# EAGLE library part 750370228 (library ds_trafo)
WE-OLSTM Offline Flyback Transformers Characteristics Nominal input voltage: 85–265 VAC (120–375 VDC) Operating temperature: –40 °C to +125 °C Isolation voltage: 2 kVAC up to 5 kVAC Multiple output options Options for fixed frequency or quasi-resonant mode operation Most products meet reinforced insulation Applications Offline-switch mode power supplies Especially designed for several ICs from STMicroelectronics Auxiliary power supply Home appliances Consumer electronics <https://www.we-online.com/components/media/o781306v209%20FAMILY-MID-OLSTM.jpg> Details see: www.we-online.com/en/components/products/WE-OLSTM <www.we-online.com/en/components/products/WE-OLSTM/?utm_source=eagle_model&utm_medium=description_link&utm_campaign=eisos_eagle> Created by Leviosa 2024-04-15 2024(C) Wurth Elektronik
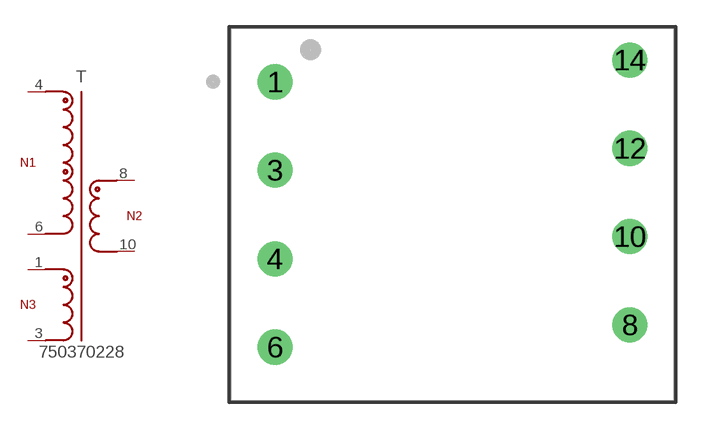
[diagram p1: symbol with the pads of WE-OLSTM_EE20_L22.2W25H16; footprint WE-OLSTM_EE20_L22.2W25H16]

Designator prefix T

## 750370228 (DATASHEET-URL: https://www.we-online.com/redexpert/spec/750370228?ae; FSWITCH: 50 - 60kHz; IOUT1: 1250mA; ISAT: 1325mA; L: 1.5mH; MOUNT: THT; N: 8:1:1; PART-NUMBER: 750370228; SIZE: EE20/10/6; VALUE: 750370228; VAUX: 12V; VIN: 85 - 265 V (AC); VOUT1: 12V; VT: 3900V(AC))  [WE-OLSTM_EE20_L22.2W25H16]
1  1  pas
3  3  pas
4  4  pas
6  6  pas
8  8  pas
10  10  pas

## Footprint WE-OLSTM_EE20_L22.2W25H16 (pad centres in mm)
WE-OLSTM Offline Flyback Transformers for STMicroelectronics Size: EE20, THT, 14Pins LXWXH=22.2X25X16mm
drill 1.32 pad 1.93: 1 -10,7.48; 3 -10,2.5; 4 -10,-2.5; 6 -10,-7.48; 8 10,-6.225; 10 10,-1.245; 12 10,3.735; 14 10,8.715